# Altium footprint library C354897.PcbLib: 1 footprints
Each footprint in its own frame and in the unit in brackets; x right, y up, seen from the top. Pads: shape width x height; smd on the part's side, far side on the other; paste and mask are expansions set on the pad; w line width, h text height; cw(c..) or ccw(c..) is an arc to the next point about the centre after c.
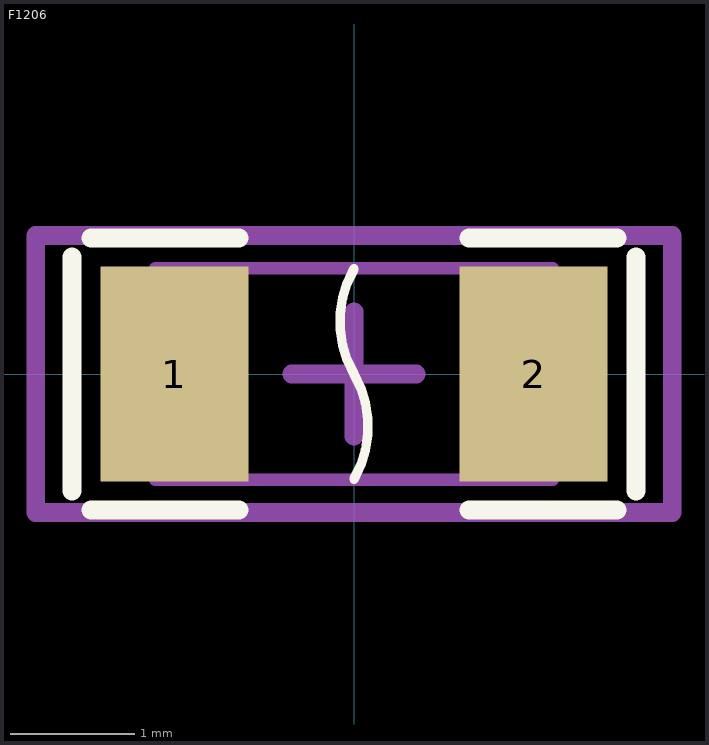
[diagram p0: the footprint, top view; thin cyan lines are the x and y axes]

## F1206 [mm] "3A Fuse Surface Mount 1206"
pads (2):
  rect 1.19x1.728 smd: 1(-1.445,0) 2(1.445,0)
Top Overlay:
  circle w0.06: c-1.6,-0.8 r0.03
  lines w0.076: 0,-0.845 ccw(c-0.732,-0.422) 0,0 cw(c0.732,0.422) 0,0.845
  lines w0.152: -2.269,-0.94 -2.269,0.94 ; -2.116,-1.093 -0.926,-1.093 ; -2.116,1.093 -0.926,1.093 ; 0.926,-1.093 2.116,-1.093 ; 0.926,1.093 2.116,1.093 ; 2.269,-0.94 2.269,0.94
AOI:
  region: -1.6,-0.8 -1.1,-0.8 -1.1,0.8 -1.6,0.8
  region: 1.1,-0.8 1.6,-0.8 1.6,0.8 1.1,0.8
Top 3D Body:
  lines w0.1: -1.6,-0.85 1.6,-0.85 1.6,0.85 -1.6,0.85 -1.6,-0.85
Top Courtyard:
  lines w0.15: -0.5,0 0.5,0 ; 0,-0.5 0,0.5 ; -2.559,-1.114 2.559,-1.114 2.559,1.114 -2.559,1.114 -2.559,-1.114
3D body "F1206.step": height 0.03, standoff 0, extent -1.6,-0.85 1.6,0.85